# EAGLE library part STM32F407IGH6 (library circuit_tree)
IC
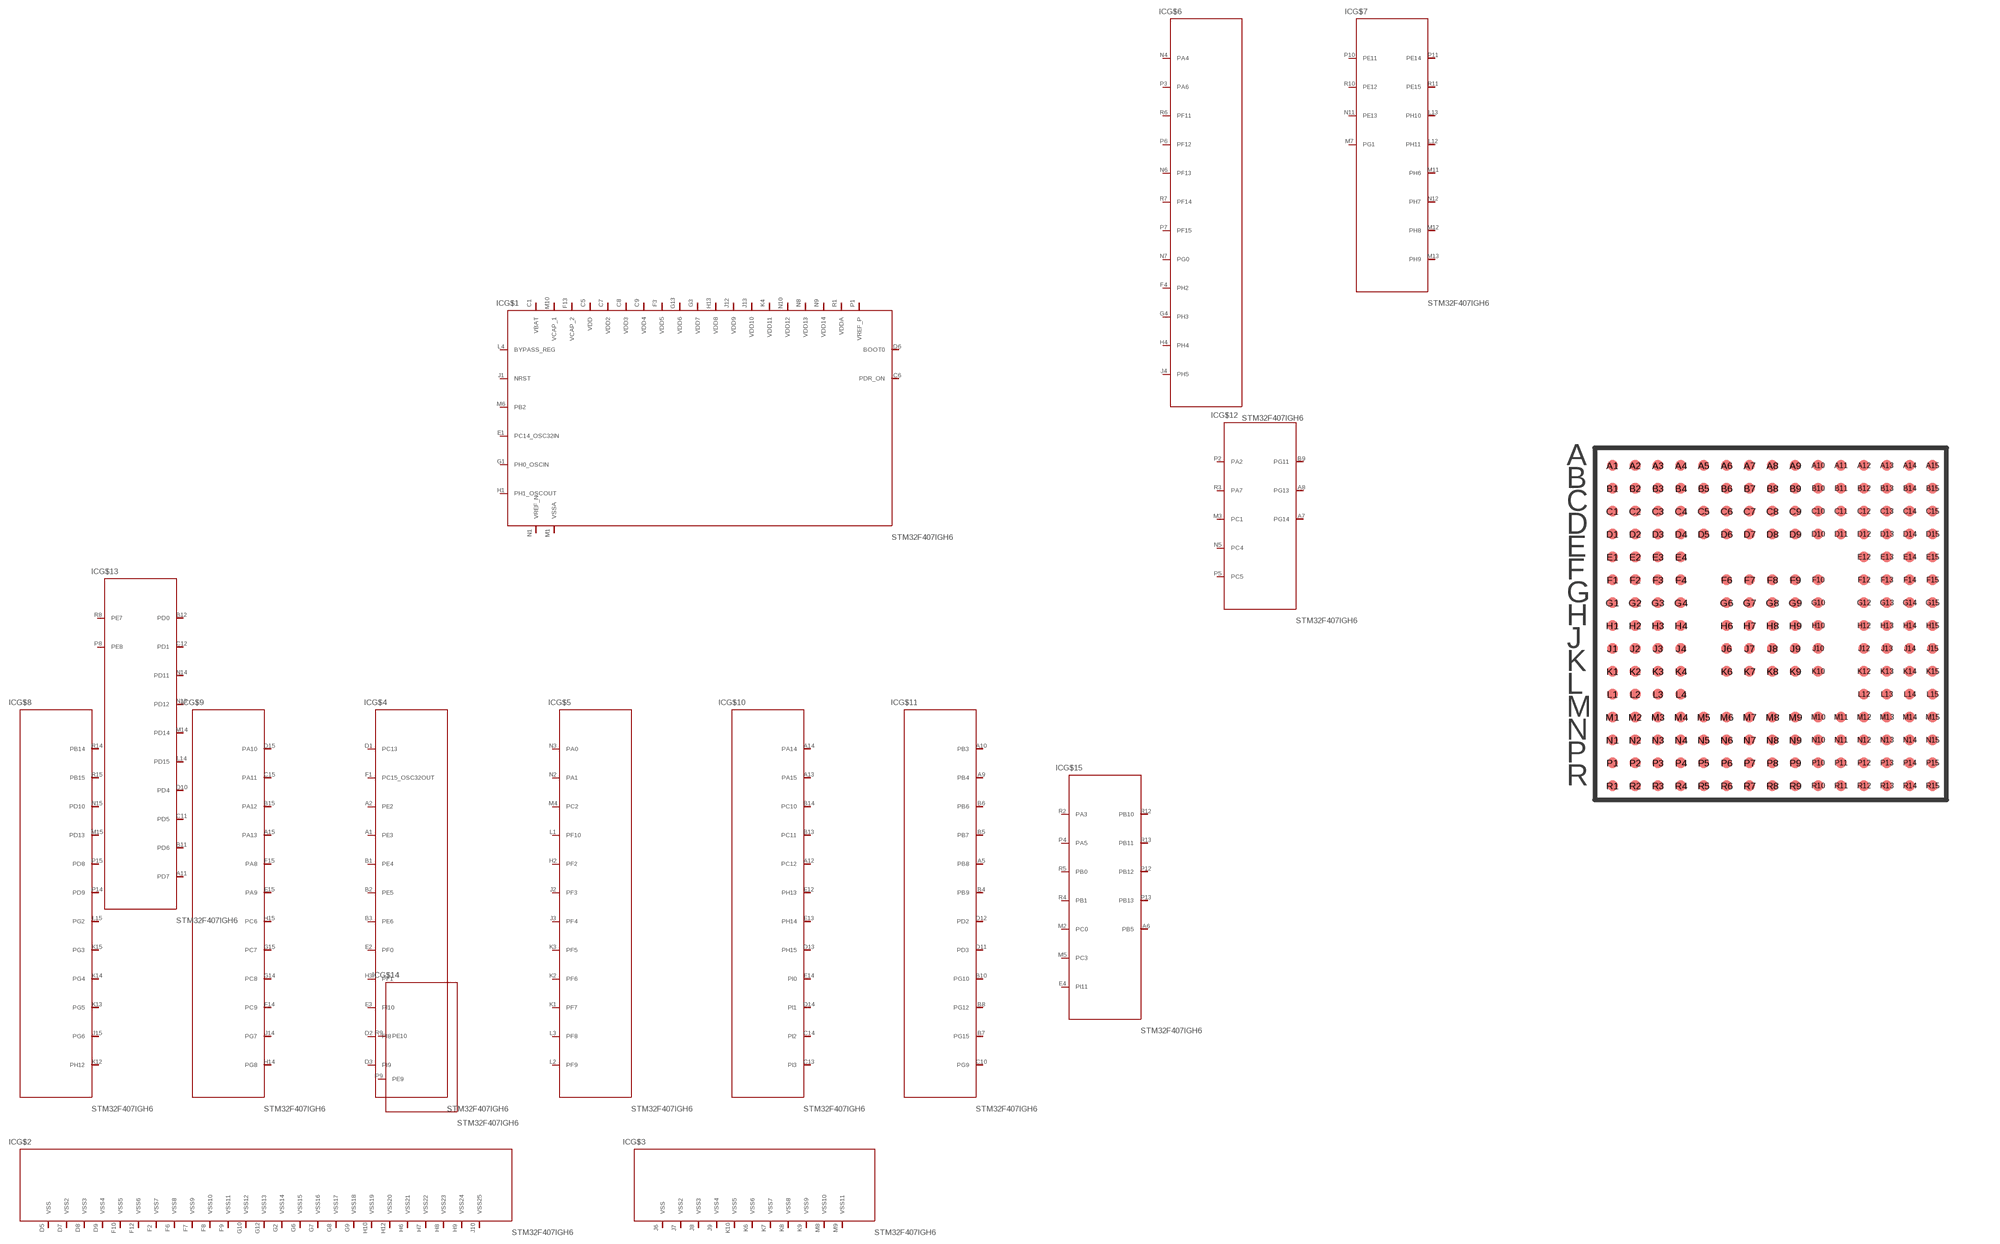
[diagram p9: symbol with the pads of UFBGA176; footprint UFBGA176]

Designator prefix IC; gates G$1=STM32F407IGH6 G$2=STM32F407IGH62 G$3=STM32F407IGH63 G$4=STM32F407IGH64 G$5=STM32F407IGH65 G$6=STM32F407IGH66 G$7=STM32F407IGH67 G$8=STM32F407IGH68 G$9=STM32F407IGH69 G$10=STM32F407IGH610 G$11=STM32F407IGH611 G$12=STM32F407IGH612 G$13=STM32F407IGH613 G$14=STM32F407IGH614 G$15=STM32F407IGH615

## STM32F407IGH6  [UFBGA176]
A1  G$4:PE3  pas
A2  G$4:PE2  pas
A5  G$11:PB8  pas
A6  G$15:PB5  pas
A7  G$12:PG14  pas
A8  G$12:PG13  pas
A9  G$11:PB4  pas
A10  G$11:PB3  pas
A11  G$13:PD7  pas
A12  G$10:PC12  pas
A13  G$10:PA15  pas
A14  G$10:PA14  pas
A15  G$9:PA13  pas
B1  G$4:PE4  pas
B2  G$4:PE5  pas
B3  G$4:PE6  pas
B4  G$11:PB9  pas
B5  G$11:PB7  pas
B6  G$11:PB6  pas
B7  G$11:PG15  pas
B8  G$11:PG12  pas
B9  G$12:PG11  pas
B10  G$11:PG10  pas
B11  G$13:PD6  pas
B12  G$13:PD0  pas
B13  G$10:PC11  pas
B14  G$10:PC10  pas
B15  G$9:PA12  pas
C1  G$1:VBAT  pas
C5  G$1:VDD  pas
C6  G$1:PDR_ON  pas
C7  G$1:VDD2  pas
C8  G$1:VDD3  pas
C9  G$1:VDD4  pas
C10  G$11:PG9  pas
C11  G$13:PD5  pas
C12  G$13:PD1  pas
C13  G$10:PI3  pas
C14  G$10:PI2  pas
C15  G$9:PA11  pas
D1  G$4:PC13  pas
D2  G$4:PI8  pas
D3  G$4:PI9  pas
D5  G$2:VSS  pas
D6  G$1:BOOT0  pas
D7  G$2:VSS2  pas
D8  G$2:VSS3  pas
D9  G$2:VSS4  pas
D10  G$13:PD4  pas
D11  G$11:PD3  pas
D12  G$11:PD2  pas
D13  G$10:PH15  pas
D14  G$10:PI1  pas
D15  G$9:PA10  pas
E1  G$1:PC14_OSC32IN  pas
E2  G$4:PF0  pas
E3  G$4:PI10  pas
E4  G$15:PI11  pas
E12  G$10:PH13  pas
E13  G$10:PH14  pas
E14  G$10:PI0  pas
E15  G$9:PA9  pas
F1  G$4:PC15_OSC32OUT  pas
F2  G$2:VSS7  pas
F3  G$1:VDD5  pas
F4  G$6:PH2  pas
F6  G$2:VSS8  pas
F7  G$2:VSS9  pas
F8  G$2:VSS10  pas
F9  G$2:VSS11  pas
F10  G$2:VSS5  pas
F12  G$2:VSS6  pas
F13  G$1:VCAP_2  pas
F14  G$9:PC9  pas
F15  G$9:PA8  pas
G1  G$1:PH0_OSCIN  pas
G2  G$2:VSS14  pas
G3  G$1:VDD7  pas
G4  G$6:PH3  pas
G6  G$2:VSS15  pas
G7  G$2:VSS16  pas
G8  G$2:VSS17  pas
G9  G$2:VSS18  pas
G10  G$2:VSS12  pas
G12  G$2:VSS13  pas
G13  G$1:VDD6  pas
G14  G$9:PC8  pas
G15  G$9:PC7  pas
H1  G$1:PH1_OSCOUT  pas
H2  G$5:PF2  pas
H3  G$4:PF1  pas
H4  G$6:PH4  pas
H6  G$2:VSS21  pas
H7  G$2:VSS22  pas
H8  G$2:VSS23  pas
H9  G$2:VSS24  pas
H10  G$2:VSS19  pas
H12  G$2:VSS20  pas
H13  G$1:VDD8  pas
H14  G$9:PG8  pas
H15  G$9:PC6  pas
J1  G$1:NRST  pas
J2  G$5:PF3  pas
J3  G$5:PF4  pas
J4  G$6:PH5  pas
J6  G$3:VSS  pas
J7  G$3:VSS2  pas
J8  G$3:VSS3  pas
J9  G$3:VSS4  pas
J10  G$2:VSS25  pas
J12  G$1:VDD9  pas
J13  G$1:VDD10  pas
J14  G$9:PG7  pas
J15  G$8:PG6  pas
K1  G$5:PF7  pas
K2  G$5:PF6  pas
K3  G$5:PF5  pas
K4  G$1:VDD11  pas
K6  G$3:VSS6  pas
K7  G$3:VSS7  pas
K8  G$3:VSS8  pas
K9  G$3:VSS9  pas
K10  G$3:VSS5  pas
K12  G$8:PH12  pas
K13  G$8:PG5  pas
K14  G$8:PG4  pas
K15  G$8:PG3  pas
L1  G$5:PF10  pas
L2  G$5:PF9  pas
L3  G$5:PF8  pas
L4  G$1:BYPASS_REG  pas
L12  G$7:PH11  pas
L13  G$7:PH10  pas
L14  G$13:PD15  pas
L15  G$8:PG2  pas
M1  G$1:VSSA  pas
M2  G$15:PC0  pas
M3  G$12:PC1  pas
M4  G$5:PC2  pas
M5  G$15:PC3  pas
M6  G$1:PB2  pas
M7  G$7:PG1  pas
M8  G$3:VSS10  pas
M9  G$3:VSS11  pas
M10  G$1:VCAP_1  pas
M11  G$7:PH6  pas
M12  G$7:PH8  pas
M13  G$7:PH9  pas
M14  G$13:PD14  pas
M15  G$8:PD13  pas
N1  G$1:VREF_N  pas
N2  G$5:PA1  pas
N3  G$5:PA0  pas
N4  G$6:PA4  pas
N5  G$12:PC4  pas
N6  G$6:PF13  pas
N7  G$6:PG0  pas
N8  G$1:VDD13  pas
N9  G$1:VDD14  pas
N10  G$1:VDD12  pas
N11  G$7:PE13  pas
N12  G$7:PH7  pas
N13  G$13:PD12  pas
N14  G$13:PD11  pas
N15  G$8:PD10  pas
P1  G$1:VREF_P  pas
P2  G$12:PA2  pas
P3  G$6:PA6  pas
P4  G$15:PA5  pas
P5  G$12:PC5  pas
P6  G$6:PF12  pas
P7  G$6:PF15  pas
P8  G$13:PE8  pas
P9  G$14:PE9  pas
P10  G$7:PE11  pas
P11  G$7:PE14  pas
P12  G$15:PB12  pas
P13  G$15:PB13  pas
P14  G$8:PD9  pas
P15  G$8:PD8  pas
R1  G$1:VDDA  pas
R2  G$15:PA3  pas
R3  G$12:PA7  pas
R4  G$15:PB1  pas
R5  G$15:PB0  pas
R6  G$6:PF11  pas
R7  G$6:PF14  pas
R8  G$13:PE7  pas
R9  G$14:PE10  pas
R10  G$7:PE12  pas
R11  G$7:PE15  pas
R12  G$15:PB10  pas
R13  G$15:PB11  pas
R14  G$8:PB14  pas
R15  G$8:PB15  pas

## Footprint UFBGA176 (pad centres in mm)
smd 0.3 x 0.3: A1 0,0; A2 0.65,0; A3 1.3,0; A4 1.95,0; A5 2.6,0; A6 3.25,0; A7 3.9,0; A8 4.55,0; A9 5.2,0; A10 5.85,0; A11 6.5,0; A12 7.15,0; A13 7.8,0; A14 8.45,0; A15 9.1,0; B1 0,-0.65; B2 0.65,-0.65; B3 1.3,-0.65; B4 1.95,-0.65; B5 2.6,-0.65; B6 3.25,-0.65; B7 3.9,-0.65; B8 4.55,-0.65; B9 5.2,-0.65; B10 5.85,-0.65; B11 6.5,-0.65; B12 7.15,-0.65; B13 7.8,-0.65; B14 8.45,-0.65; B15 9.1,-0.65; C1 0,-1.3; C2 0.65,-1.3; C3 1.3,-1.3; C4 1.95,-1.3; C5 2.6,-1.3; C6 3.25,-1.3; C7 3.9,-1.3; C8 4.55,-1.3; C9 5.2,-1.3; C10 5.85,-1.3; C11 6.5,-1.3; C12 7.15,-1.3; C13 7.8,-1.3; C14 8.45,-1.3; C15 9.1,-1.3; D1 0,-1.95; D2 0.65,-1.95; D3 1.3,-1.95; D4 1.95,-1.95; D5 2.6,-1.95; D6 3.25,-1.95; D7 3.9,-1.95; D8 4.55,-1.95; D9 5.2,-1.95; D10 5.85,-1.95; D11 6.5,-1.95; D12 7.15,-1.95; D13 7.8,-1.95; D14 8.45,-1.95; D15 9.1,-1.95; E1 0,-2.6; E2 0.65,-2.6; E3 1.3,-2.6; E4 1.95,-2.6; E12 7.15,-2.6; E13 7.8,-2.6; E14 8.45,-2.6; E15 9.1,-2.6; F1 0,-3.25; F2 0.65,-3.25; F3 1.3,-3.25; F4 1.95,-3.25; F6 3.25,-3.25; F7 3.9,-3.25; F8 4.55,-3.25; F9 5.2,-3.25; F10 5.85,-3.25; F12 7.15,-3.25; F13 7.8,-3.25; F14 8.45,-3.25; F15 9.1,-3.25; G1 0,-3.9; G2 0.65,-3.9; G3 1.3,-3.9; G4 1.95,-3.9; G6 3.25,-3.9; G7 3.9,-3.9; G8 4.55,-3.9; G9 5.2,-3.9; G10 5.85,-3.9; G12 7.15,-3.9; G13 7.8,-3.9; G14 8.45,-3.9; G15 9.1,-3.9; H1 0,-4.55; H2 0.65,-4.55; H3 1.3,-4.55; H4 1.95,-4.55; H6 3.25,-4.55; H7 3.9,-4.55; H8 4.55,-4.55; H9 5.2,-4.55; H10 5.85,-4.55; H12 7.15,-4.55; H13 7.8,-4.55; H14 8.45,-4.55; H15 9.1,-4.55; J1 0,-5.2; J2 0.65,-5.2; J3 1.3,-5.2; J4 1.95,-5.2; J6 3.25,-5.2; J7 3.9,-5.2; J8 4.55,-5.2; J9 5.2,-5.2; J10 5.85,-5.2; J12 7.15,-5.2; J13 7.8,-5.2; J14 8.45,-5.2; J15 9.1,-5.2; K1 0,-5.85; K2 0.65,-5.85; K3 1.3,-5.85; K4 1.95,-5.85; K6 3.25,-5.85; K7 3.9,-5.85; K8 4.55,-5.85; K9 5.2,-5.85; K10 5.85,-5.85; K12 7.15,-5.85; K13 7.8,-5.85; K14 8.45,-5.85; K15 9.1,-5.85; L1 0,-6.5; L2 0.65,-6.5; L3 1.3,-6.5; L4 1.95,-6.5; L12 7.15,-6.5; L13 7.8,-6.5; L14 8.45,-6.5; L15 9.1,-6.5; M1 0,-7.15; M2 0.65,-7.15; M3 1.3,-7.15; M4 1.95,-7.15; M5 2.6,-7.15; M6 3.25,-7.15; M7 3.9,-7.15; M8 4.55,-7.15; M9 5.2,-7.15; M10 5.85,-7.15; M11 6.5,-7.15; M12 7.15,-7.15; M13 7.8,-7.15; M14 8.45,-7.15; M15 9.1,-7.15; N1 0,-7.8; N2 0.65,-7.8; N3 1.3,-7.8; N4 1.95,-7.8; N5 2.6,-7.8; N6 3.25,-7.8; N7 3.9,-7.8; N8 4.55,-7.8; N9 5.2,-7.8; N10 5.85,-7.8; N11 6.5,-7.8; N12 7.15,-7.8; N13 7.8,-7.8; N14 8.45,-7.8; N15 9.1,-7.8; P1 0,-8.45; P2 0.65,-8.45; P3 1.3,-8.45; P4 1.95,-8.45; P5 2.6,-8.45; P6 3.25,-8.45; P7 3.9,-8.45; P8 4.55,-8.45; P9 5.2,-8.45; P10 5.85,-8.45; P11 6.5,-8.45; P12 7.15,-8.45; P13 7.8,-8.45; P14 8.45,-8.45; P15 9.1,-8.45; R1 0,-9.1; R2 0.65,-9.1; R3 1.3,-9.1; R4 1.95,-9.1; R5 2.6,-9.1; R6 3.25,-9.1; R7 3.9,-9.1; R8 4.55,-9.1; R9 5.2,-9.1; R10 5.85,-9.1; R11 6.5,-9.1; R12 7.15,-9.1; R13 7.8,-9.1; R14 8.45,-9.1; R15 9.1,-9.1